# Altium schematic symbol library SchlibOjonav.SchLib: 2 symbols
Pins are listed as number, name and electrical type; pins without a type are passive.

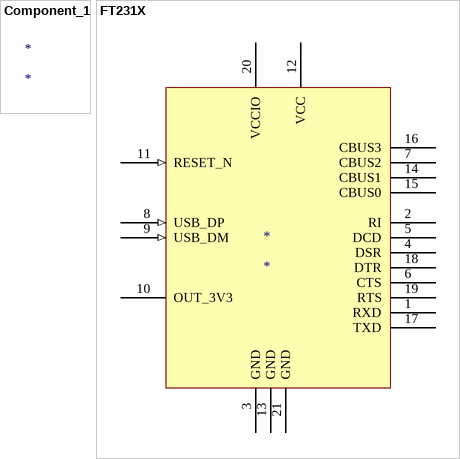
[diagram p0: symbols Component_1 to FT231X]

## Component_1
designator *

## FT231X
designator *
pins: 1 RXD, 2 RI, 3 GND (power), 4 DSR, 5 DCD, 6 CTS, 7 CBUS2, 8 USB_DP (in), 9 USB_DM (in), 10 OUT_3V3 (power), 11 RESET_N (in), 12 VCC, 13 GND (power), 14 CBUS1, 15 CBUS0, 16 CBUS3, 17 TXD, 18 DTR, 19 RTS, 20 VCCIO (power), 21 GND (power)